# Altium schematic symbol library Capacitor_pol.Schlib: 1 symbol
Pins are listed as number, name and electrical type; pins without a type are passive.

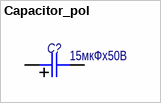
[diagram p0: symbol Capacitor_pol]

## Capacitor_pol
designator C?, comment value 15мкФх50В  (hidden comment: OS K53-68)
Polarized capacitor; Назначение: Поляризованный SMD-конденсатор; Наименование: ОС К53-68; Потребление, Вт: 0; Точность: %; Напряжение: В; Диэлектрик: *
footprint SMD_size_B
footprint SMD_size_C
footprint K53-66
footprint SMD_size_E
footprint SMD_size_D
pins: 1, 2